# Altium integrated library idc-soket.IntLib: 1 symbol
Pins are listed as number, name and electrical type; pins without a type are passive.

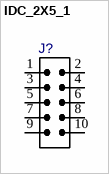
[diagram p0: symbol IDC_2X5_1]

## IDC_2X5_1
designator J?, comment IDC_2X5  (value not drawn)
CONN, IDC, Male, pitch: 2.54mm, 10POS; VALUE: IDC_2X5
footprint IDC_2X5 (IDC, HEADER BOX 2X5, 10p, 2.54mm pitch)
pins: 1, 2, 3, 4, 5, 6, 7, 8, 9, 10